# Altium schematic symbol library Stepper_control_board_v100.SchLib: 1 symbol
Pins are listed as number, name and electrical type; pins without a type are passive.

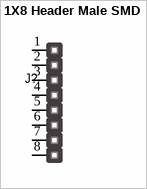
[diagram p0: symbol 1X8 Header Male SMD]

## 1X8 Header Male SMD
designator J?  (value not drawn)
Manufacturer Part Number: M20-8770842R; Manufacturer: Harwin Inc.; Barcode: 0100000099858; Assembly: SMD
footprint 1X8 Header Male SMD
pins: 1, 2 1, 3 1, 4 1, 5 1, 6 1, 7 1, 8 1